# Altium schematic symbol library personal_library.SchLib: 52 symbols
Pins are listed as number, name and electrical type; pins without a type are passive.

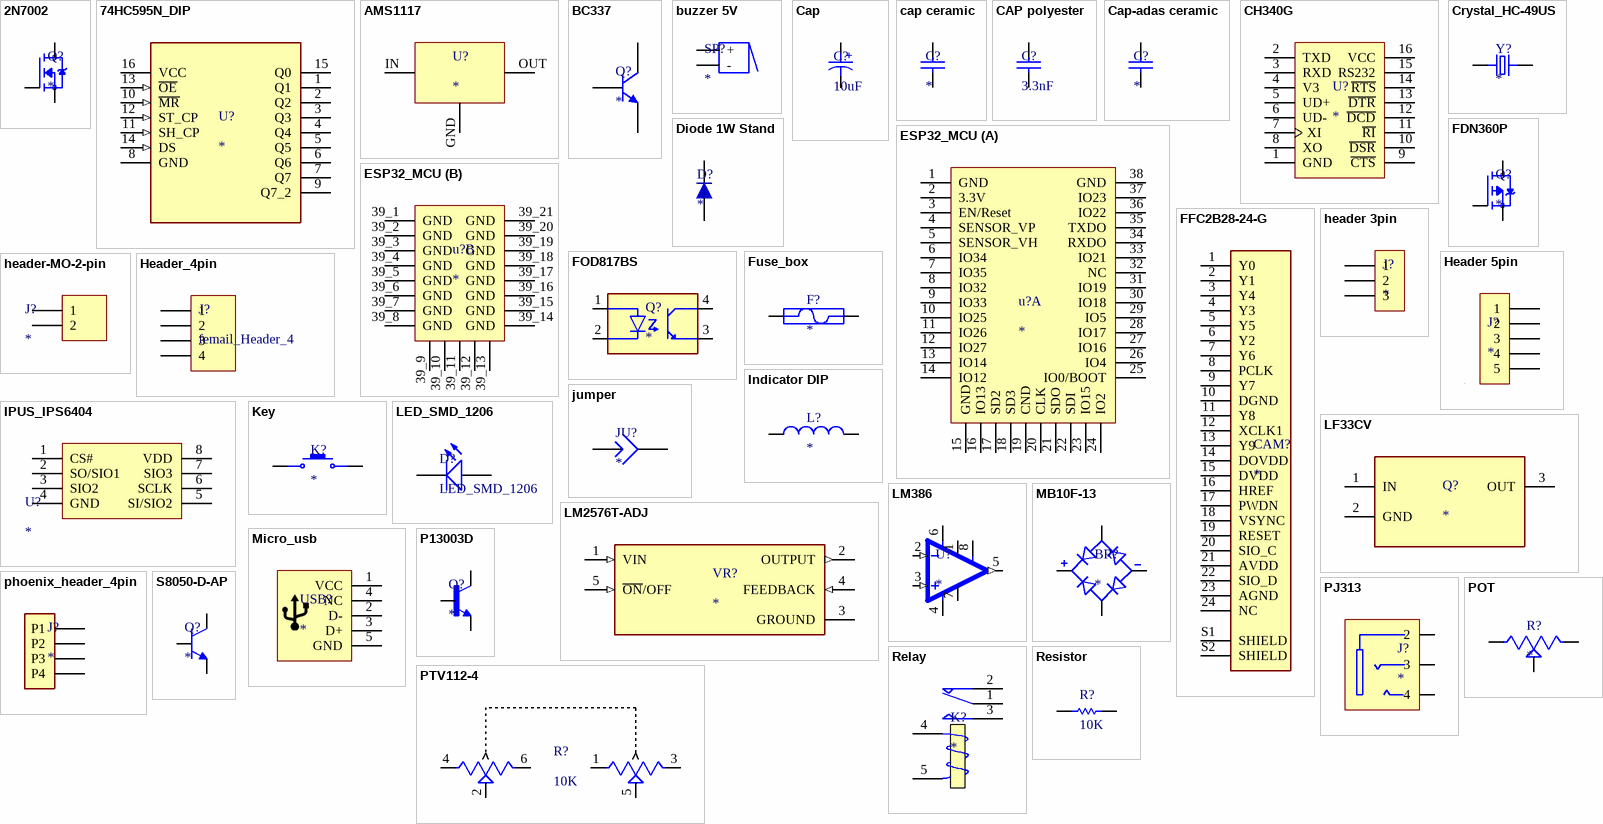
[diagram p0: symbols 2N7002 to S8050-D-AP]

## 2N7002
designator Q?
footprint SOT23-3L
pins: 1 G, 2 S, 3 D

## 74HC595N_DIP
designator U?
Shift Shift Register 1 Element 8 Bit 16-DIP
footprint 74HC595N_DIP
pins: 1 Q1, 2 Q2, 3 Q3, 4 Q4, 5 Q5, 6 Q6, 7 Q7, 8 GND, 9 Q7_2, 10 ~{MR} (in), 11 SH_CP (in), 12 ST_CP (in), 13 ~{OE} (in), 14 DS (in), 15 Q0, 16 VCC (power)

## AMS1117
designator U?
footprint SOT-223
pins: GND (power), IN (power), OUT (power)

## BC337
designator Q?
footprint SOT23-3L
pins: 1 E, 2 B, 3 C

## buzzer 5V
designator SP?
footprint BUZZER
pins: 1 +, 2 -

## Cap
designator C?, comment 10uF
Cap electrolitic radial 6x7-2.5
footprint TH_electrolite
pins: 1, 2
text: +

## cap ceramic
designator C?
footprint SMD_0805
footprint SMD_1206
footprint SMD 1812
pins: 1, 2

## CAP polyester
designator C?, comment 3.3nF
footprint Cap polyester
pins: 1, 2

## Cap-adas ceramic
designator C?
footprint Cap-100nF
pins: 1, 2

## CH340G
designator U?
footprint SOP_16
pins: 1 GND, 2 TXD, 3 RXD, 4 V3, 5 UD+, 6 UD-, 7 XI, 8 XO, 9 ~{CTS}, 10 ~{DSR}, 11 ~{RI}, 12 ~{DCD}, 13 ~{DTR}, 14 ~{RTS}, 15 RS232, 16 VCC

## Crystal_HC-49US
designator Y?
footprint Crystal_HC-49US
pins: 1, 2

## Diode 1W Stand
designator D?
footprint Diode 1W Stand DIP
pins: 1, 2

## ESP32_MCU
designator u?
footprint 38-SMD Module (ESP32_mcu)
part A pins: 1 GND, 2 3.3V, 3 EN/Reset (power), 4 SENSOR_VP, 5 SENSOR_VH, 6 IO34, 7 IO35, 8 IO32, 9 IO33, 10 IO25, 11 IO26, 12 IO27, 13 IO14, 14 IO12, 15 GND, 16 IO13, 17 SD2, 18 SD3, 19 CND, 20 CLK, 21 SDO, 22 SDI, 23 IO15, 24 IO2, 25 IO0/BOOT, 26 IO4, 27 IO16, 28 IO17, 29 IO5, 30 IO18, 31 IO19, 32 NC, 33 IO21, 34 RXDO, 35 TXDO, 36 IO22, 37 IO23, 38 GND
part B pins: 39_1 GND, 39_2 GND, 39_3 GND, 39_4 GND, 39_5 GND, 39_6 GND, 39_7 GND, 39_8 GND, 39_9 GND, 39_10 GND, 39_11 GND, 39_12 GND, 39_13 GND, 39_14 GND, 39_15 GND, 39_16 GND, 39_17 GND, 39_18 GND, 39_19 GND, 39_20 GND, 39_21 GND

## FDN360P
designator Q?
P-Channel 30V 2A (Ta) 500mW (Ta) Surface Mount SuperSOT-3
footprint SOT23-3L
pins: 1 G, 2 S, 3 D

## FFC2B28-24-G
designator CAM?
24 Position FFC, FPC Connector Contacts, Top and Bottom 0.020 (0.50mm) Surface Mount, Right Angle
footprint FFC_24pin_smd
pins: 1 Y0, 2 Y1, 3 Y4, 4 Y3, 5 Y5, 6 Y2, 7 Y6, 8 PCLK, 9 Y7, 10 DGND, 11 Y8, 12 XCLK1, 13 Y9, 14 DOVDD, 15 DVDD, 16 HREF, 17 PWDN, 18 VSYNC, 19 RESET, 20 SIO_C, 21 AVDD, 22 SIO_D, 23 AGND, 24 NC, S1 SHIELD, S2 SHIELD

## FOD817BS
designator Q?
footprint SOIC254P1016X385-4N
pins: 1 ANODE, 2 CATHODE, 3 EMITTER, 4 COLLECTOR

## Fuse_box
designator F?
Fuse + Fuse box dip
footprint Fuse_box
pins: 1, 2

## header 3pin
designator J?
footprint 3pin header
pins: 1, 2, 3

## Header 5pin
designator J?
footprint 5Pin header
pins: 1, 2, 3, 4, 5

## header-MO-2-pin
designator J?
footprint Header-MO-2-pin
footprint Socket Blue_2Pin
pins: 1, 2

## Header_4pin
designator J?, comment femail_Header_4
footprint femail_Header_4pin
pins: 1, 2, 3, 4

## Indicator DIP
designator L?
footprint Indicator_DIP
pins: 1, 2

## IPUS_IPS6404
designator U?
PSRAM ESP32CAM
footprint SOP-8
pins: 1 CS#, 2 SO/SIO1, 3 SIO2, 4 GND, 5 SI/SIO2, 6 SCLK, 7 SIO3, 8 VDD

## jumper
designator JU?
footprint jumper
pins: 1, 2

## Key
designator K?
footprint key smd (tac switch)
pins: 1, 2

## LED_SMD_1206
designator D?
footprint LED_SMD_1206
pins: 1 K, 2 A

## LF33CV
designator Q?
Linear Voltage Regulator IC Positive Fixed 1 Output 500mA TO-220
footprint LF33CV_TO220_3
pins: 1 IN (power), 2 GND, 3 OUT (power)

## LM386
designator U?
footprint LM386
pins: 1 GAIN@1 (io), 2 -IN (in), 3 +IN (in), 4 V- (power), 5 OUT (out), 6 V+ (power), 7 BP (io), 8 GAIN@8 (io)

## LM2576T-ADJ
designator VR?
adjustable switch regulator
footprint LM2576T-ADJ_TO220
pins: 1 VIN (in), 2 OUTPUT (out), 3 GROUND (power), 4 FEEDBACK (in), 5 ~{ON}/OFF (in)

## MB10F-13
designator BR?
footprint DIOB_MB10F-13
pins: 1 POS, 2 AC1, 3 NEG, 4 AC2

## Micro_usb
designator USB?
footprint micro_usb_smd (4 pin holder)
pins: 1 VCC (power), 2 D-, 3 D+, 4 NC, 5 GND (power)

## P13003D
designator Q?
Bipolar (BJT) Transistor NPN 80 V 1.5 A - 1.25 W Through Hole TO-126-3
footprint TO-126D
pins: 1 E, 2 C, 3 B

## phoenix_header_4pin
designator J?
Pluggable terminal block; socket; male; 3.5mm; angled 90Â°; ways: 4
footprint phoenix_header_4pin
pins: P1 (power), P2 (power), P3 (power), P4 (power)

## PJ313
designator J?
footprint PJ313
pins: 2, 3, 4

## POT
designator R?
footprint POT
footprint POT-2
pins: 1 CCW, 2 W, 3 CW

## PTV112-4
designator R?, comment 10K
Stero POT
footprint PTV112-4
pins: 1, 2, 3, 4 1, 5 2, 6 3

## Relay
designator K?
footprint relay_milon
pins: 1 COM, 2 NC, 3 NO, 4 T1, 5 T2

## Resistor
designator R?, comment 10K
footprint resistor 1206
footprint RES2010
footprint Axial 1W  7_0mm (DIP resistor)
footprint RES Axial 0.25W
pins: 1, 2

## S8050-D-AP
designator Q?
footprint TO92250P457H470-3B
pins: 1 E, 2 B, 3 C

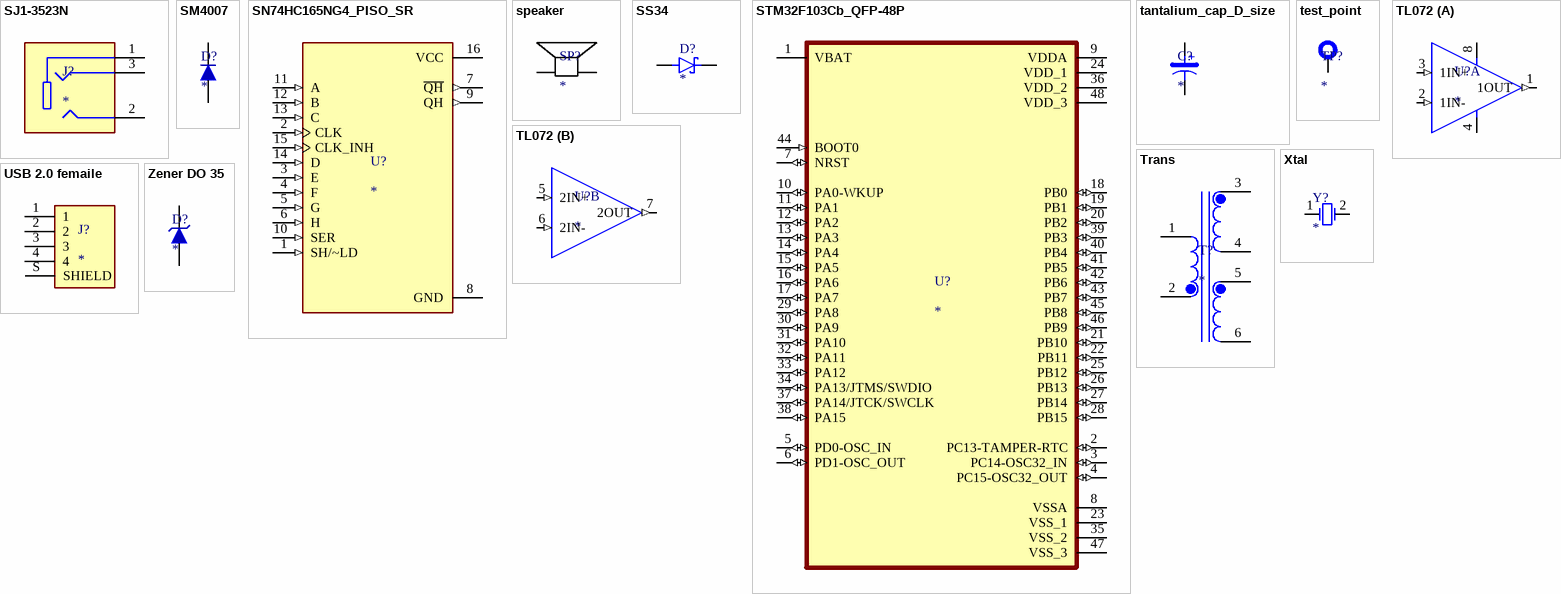
[diagram p1: symbols SJ1-3523N to Zener DO 35]

## SJ1-3523N
designator J?
input AUX
footprint SJ1-3523N
pins: 1, 2, 3

## SM4007
designator D?
footprint SOD-123F
pins: 1, 2

## SN74HC165NG4_PISO_SR
designator U?
Shift Shift Register 1 Element 8 Bit 16-PDIP
footprint SN74HC165NG4_PISO_SR
pins: 1 SH/~LD (in), 2 CLK (in), 3 E (in), 4 F (in), 5 G (in), 6 H (in), 7 ~{QH} (out), 8 GND (power), 9 QH (out), 10 SER (in), 11 A (in), 12 B (in), 13 C (in), 14 D (in), 15 CLK_INH (in), 16 VCC (power)

## speaker
designator SP?
footprint speaker
pins: 1 POS, 2 NEG

## SS34
designator D?
SMD schottky diode
footprint SS34_smd
pins: A, C K

## STM32F103Cb_QFP-48P
designator U?
ARMÂ® CortexÂ®-M3 STM32F1 Microcontroller IC 32-Bit Single-Core 72MHz 128KB (128K x 8) FLASH
footprint STM32F103Cb_QFP-48P
pins: 1 VBAT (power), 2 PC13-TAMPER-RTC (io), 3 PC14-OSC32_IN (io), 4 PC15-OSC32_OUT (io), 5 PD0-OSC_IN (io), 6 PD1-OSC_OUT (io), 7 NRST (io), 8 VSSA (power), 9 VDDA (power), 10 PA0-WKUP (io), 11 PA1 (io), 12 PA2 (io), 13 PA3 (io), 14 PA4 (io), 15 PA5 (io), 16 PA6 (io), 17 PA7 (io), 18 PB0 (io), 19 PB1 (io), 20 PB2 (io), 21 PB10 (io), 22 PB11 (io), 23 VSS_1 (power), 24 VDD_1 (power), 25 PB12 (io), 26 PB13 (io), 27 PB14 (io), 28 PB15 (io), 29 PA8 (io), 30 PA9 (io), 31 PA10 (io), 32 PA11 (io), 33 PA12 (io), 34 PA13/JTMS/SWDIO (io), 35 VSS_2 (power), 36 VDD_2 (power), 37 PA14/JTCK/SWCLK (io), 38 PA15 (io), 39 PB3 (io), 40 PB4 (io), 41 PB5 (io), 42 PB6 (io), 43 PB7 (io), 44 BOOT0 (in), 45 PB8 (io), 46 PB9 (io), 47 VSS_3 (power), 48 VDD_3 (power)

## tantalium_cap_D_size
designator C?
footprint Tantalium_cap_D size
footprint B size (1210)
pins: 1, 2
text: +

## test_point
designator TP?
footprint test_point
pins: 1

## TL072
designator U?
Operational Amplifiers - Op Amps Dual Lo-Noise JFET Input Op Amp
footprint DIP794W45P254L1060H508Q8
part A pins: 1 1OUT (out), 2 1IN- (in), 3 1IN+ (in), 4 VCC- (power), 8 VCC+ (power)
part B pins: 5 2IN+ (in), 6 2IN- (in), 7 2OUT (out)

## Trans
designator T?
footprint Trans TH split bobin
pins: 1, 2, 3, 4, 5, 6

## USB 2.0 femaile
designator J?
footprint USB 2.0 femaile
pins: 1, 2, 3, 4, S SHIELD

## Xtal
designator Y?
footprint xtal
pins: 1 OSC1, 2 OSC2

## Zener DO 35
designator D?
footprint DO-35-300mil DIP
pins: 1, 2